# EAGLE library part ATTINY88-MU (library marius)
IC, 8BIT MCU, AVR Tiny, 12MHZ, QFN-32
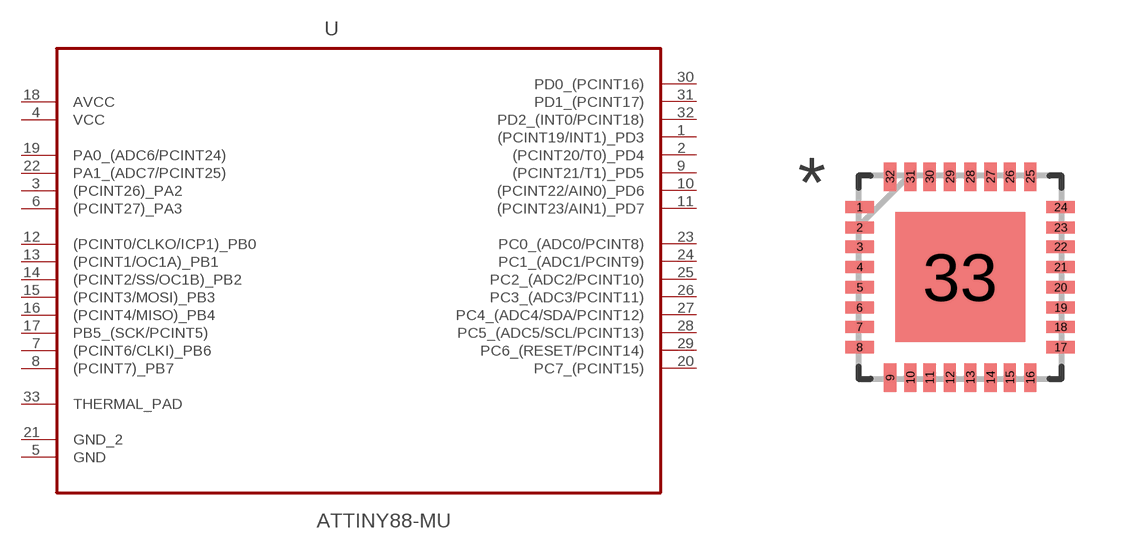
[diagram p29: symbol with the pads of QFN50P500X500X100-33N; footprint QFN50P500X500X100-33N]

Designator prefix U

## ATTINY88-MU (MPN: ATTINY88-MU; OC_FARNELL: 1748549; OC_NEWARK: 68T3857; PACKAGE: QFN-32; SUPPLIER: ATMEL)  [QFN50P500X500X100-33N]
1  (PCINT19/INT1)_PD3
2  (PCINT20/T0)_PD4
3  (PCINT26)_PA2
4  VCC  pwr
5  GND  pas
6  (PCINT27)_PA3
7  (PCINT6/CLKI)_PB6
8  (PCINT7)_PB7
9  (PCINT21/T1)_PD5
10  (PCINT22/AIN0)_PD6
11  (PCINT23/AIN1)_PD7
12  (PCINT0/CLKO/ICP1)_PB0
13  (PCINT1/OC1A)_PB1
14  (PCINT2/SS/OC1B)_PB2
15  (PCINT3/MOSI)_PB3
16  (PCINT4/MISO)_PB4
17  PB5_(SCK/PCINT5)
18  AVCC  pwr
19  PA0_(ADC6/PCINT24)
20  PC7_(PCINT15)
21  GND_2  pas
22  PA1_(ADC7/PCINT25)
23  PC0_(ADC0/PCINT8)
24  PC1_(ADC1/PCINT9)
25  PC2_(ADC2/PCINT10)
26  PC3_(ADC3/PCINT11)
27  PC4_(ADC4/SDA/PCINT12)
28  PC5_(ADC5/SCL/PCINT13)
29  PC6_(RESET/PCINT14)
30  PD0_(PCINT16)
31  PD1_(PCINT17)
32  PD2_(INT0/PCINT18)
33  THERMAL_PAD  pas

## Footprint QFN50P500X500X100-33N (pad centres in mm)
smd 0.711 x 0.305: 1 -2.515,1.753; 2 -2.515,1.245; 3 -2.515,0.762; 4 -2.515,0.254; 5 -2.515,-0.254; 6 -2.515,-0.762; 7 -2.515,-1.245; 8 -2.515,-1.753; 17 2.515,-1.753; 18 2.515,-1.245; 19 2.515,-0.762; 20 2.515,-0.254; 21 2.515,0.254; 22 2.515,0.762; 23 2.515,1.245; 24 2.515,1.753
smd 0.305 x 0.711: 9 -1.753,-2.515; 10 -1.245,-2.515; 11 -0.762,-2.515; 12 -0.254,-2.515; 13 0.254,-2.515; 14 0.762,-2.515; 15 1.245,-2.515; 16 1.753,-2.515; 25 1.753,2.515; 26 1.245,2.515; 27 0.762,2.515; 28 0.254,2.515; 29 -0.254,2.515; 30 -0.762,2.515; 31 -1.245,2.515; 32 -1.753,2.515
smd 3.251 x 3.251: 33 0,0